# EAGLE library part SAA7114 (library xess)
Philips video codec
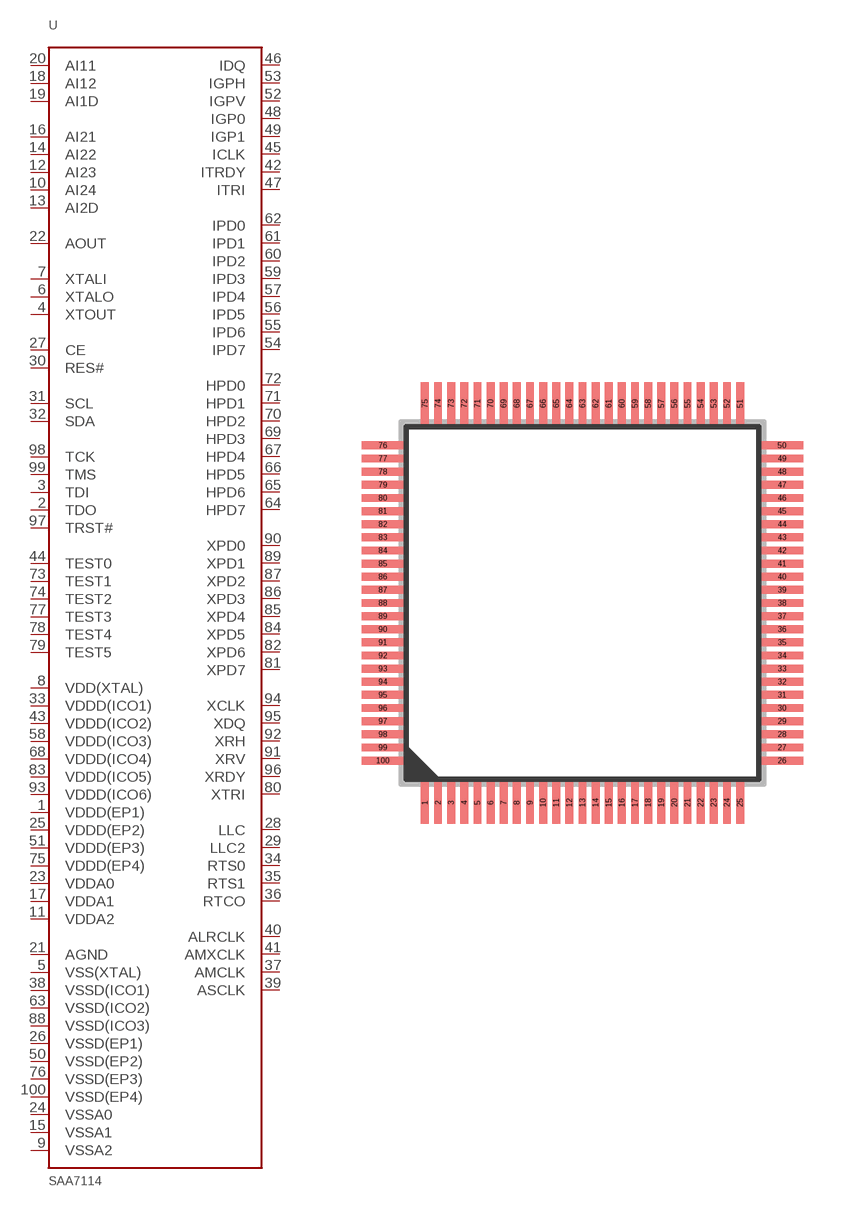
[diagram p20: symbol with the pads of LQFP100; footprint LQFP100]

Designator prefix U

## SAA7114  [LQFP100]
1  VDDD(EP1)  pwr
2  TDO  out
3  TDI  in
4  XTOUT  out
5  VSS(XTAL)  pwr
6  XTALO  out
7  XTALI  in
8  VDD(XTAL)  pwr
9  VSSA2  pwr
10  AI24  in
11  VDDA2  pwr
12  AI23  in
13  AI2D  in
14  AI22  in
15  VSSA1  pwr
16  AI21  in
17  VDDA1  pwr
18  AI12  in
19  AI1D  in
20  AI11  in
21  AGND  pwr
22  AOUT  out
23  VDDA0  pwr
24  VSSA0  pwr
25  VDDD(EP2)  pwr
26  VSSD(EP1)  pwr
27  CE  in
28  LLC  out
29  LLC2  out
30  RES#  out
31  SCL  in
32  SDA
33  VDDD(ICO1)  pwr
34  RTS0  out
35  RTS1  out
36  RTCO  out
37  AMCLK  out
38  VSSD(ICO1)  pwr
39  ASCLK  out
40  ALRCLK  out
41  AMXCLK  in
42  ITRDY  in
43  VDDD(ICO2)  pwr
44  TEST0  nc
45  ICLK  hiz
46  IDQ  hiz
47  ITRI  in
48  IGP0  hiz
49  IGP1  hiz
50  VSSD(EP2)  pwr
51  VDDD(EP3)  pwr
52  IGPV  hiz
53  IGPH  hiz
54  IPD7  hiz
55  IPD6  hiz
56  IPD5  hiz
57  IPD4  hiz
58  VDDD(ICO3)  pwr
59  IPD3  hiz
60  IPD2  hiz
61  IPD1  hiz
62  IPD0  hiz
63  VSSD(ICO2)  pwr
64  HPD7
65  HPD6
66  HPD5
67  HPD4
68  VDDD(ICO4)  pwr
69  HPD3
70  HPD2
71  HPD1
72  HPD0
73  TEST1  nc
74  TEST2  nc
75  VDDD(EP4)  pwr
76  VSSD(EP3)  pwr
77  TEST3  nc
78  TEST4  nc
79  TEST5  nc
80  XTRI  in
81  XPD7
82  XPD6
83  VDDD(ICO5)  pwr
84  XPD5
85  XPD4
86  XPD3
87  XPD2
88  VSSD(ICO3)  pwr
89  XPD1
90  XPD0
91  XRV
92  XRH
93  VDDD(ICO6)  pwr
94  XCLK
95  XDQ
96  XRDY  out
97  TRST#  in
98  TCK  in
99  TMS  in
100  VSSD(EP4)  pwr

## Footprint LQFP100 (pad centres in mm)
smd 0.3 x 1.6: 1 -6,-7.6; 2 -5.5,-7.6; 3 -5,-7.6; 4 -4.5,-7.6; 5 -4,-7.6; 6 -3.5,-7.6; 7 -3,-7.6; 8 -2.5,-7.6; 9 -2,-7.6; 10 -1.5,-7.6; 11 -1,-7.6; 12 -0.5,-7.6; 13 0,-7.6; 14 0.5,-7.6; 15 1,-7.6; 16 1.5,-7.6; 17 2,-7.6; 18 2.5,-7.6; 19 3,-7.6; 20 3.5,-7.6; 21 4,-7.6; 22 4.5,-7.6; 23 5,-7.6; 24 5.5,-7.6; 25 6,-7.6; 51 6,7.6; 52 5.5,7.6; 53 5,7.6; 54 4.5,7.6; 55 4,7.6; 56 3.5,7.6; 57 3,7.6; 58 2.5,7.6; 59 2,7.6; 60 1.5,7.6; 61 1,7.6; 62 0.5,7.6; 63 0,7.6; 64 -0.5,7.6; 65 -1,7.6; 66 -1.5,7.6; 67 -2,7.6; 68 -2.5,7.6; 69 -3,7.6; 70 -3.5,7.6; 71 -4,7.6; 72 -4.5,7.6; 73 -5,7.6; 74 -5.5,7.6; 75 -6,7.6
smd 1.6 x 0.3: 26 7.6,-6; 27 7.6,-5.5; 28 7.6,-5; 29 7.6,-4.5; 30 7.6,-4; 31 7.6,-3.5; 32 7.6,-3; 33 7.6,-2.5; 34 7.6,-2; 35 7.6,-1.5; 36 7.6,-1; 37 7.6,-0.5; 38 7.6,0; 39 7.6,0.5; 40 7.6,1; 41 7.6,1.5; 42 7.6,2; 43 7.6,2.5; 44 7.6,3; 45 7.6,3.5; 46 7.6,4; 47 7.6,4.5; 48 7.6,5; 49 7.6,5.5; 50 7.6,6; 76 -7.6,6; 77 -7.6,5.5; 78 -7.6,5; 79 -7.6,4.5; 80 -7.6,4; 81 -7.6,3.5; 82 -7.6,3; 83 -7.6,2.5; 84 -7.6,2; 85 -7.6,1.5; 86 -7.6,1; 87 -7.6,0.5; 88 -7.6,0; 89 -7.6,-0.5; 90 -7.6,-1; 91 -7.6,-1.5; 92 -7.6,-2; 93 -7.6,-2.5; 94 -7.6,-3; 95 -7.6,-3.5; 96 -7.6,-4; 97 -7.6,-4.5; 98 -7.6,-5; 99 -7.6,-5.5; 100 -7.6,-6